# Altium schematic symbol library BEEP.SchLib: 1 symbol
Pins are listed as number, name and electrical type; pins without a type are passive.

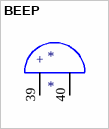
[diagram p0: symbol BEEP]

## BEEP
designator *
footprint BUZ-TH_BD9.0-P5.00-D0.6-FD
pins: 39 24, 40 25
text: +